# Altium footprint library EPC_Footprints1.PcbLib: 40 footprints (part 3 of 3)
Each footprint in its own frame and in the unit in brackets; x right, y up, seen from the top. Pads: shape width x height; smd on the part's side, far side on the other; paste and mask are expansions set on the pad; w line width, h text height; cw(c..) or ccw(c..) is an arc to the next point about the centre after c.
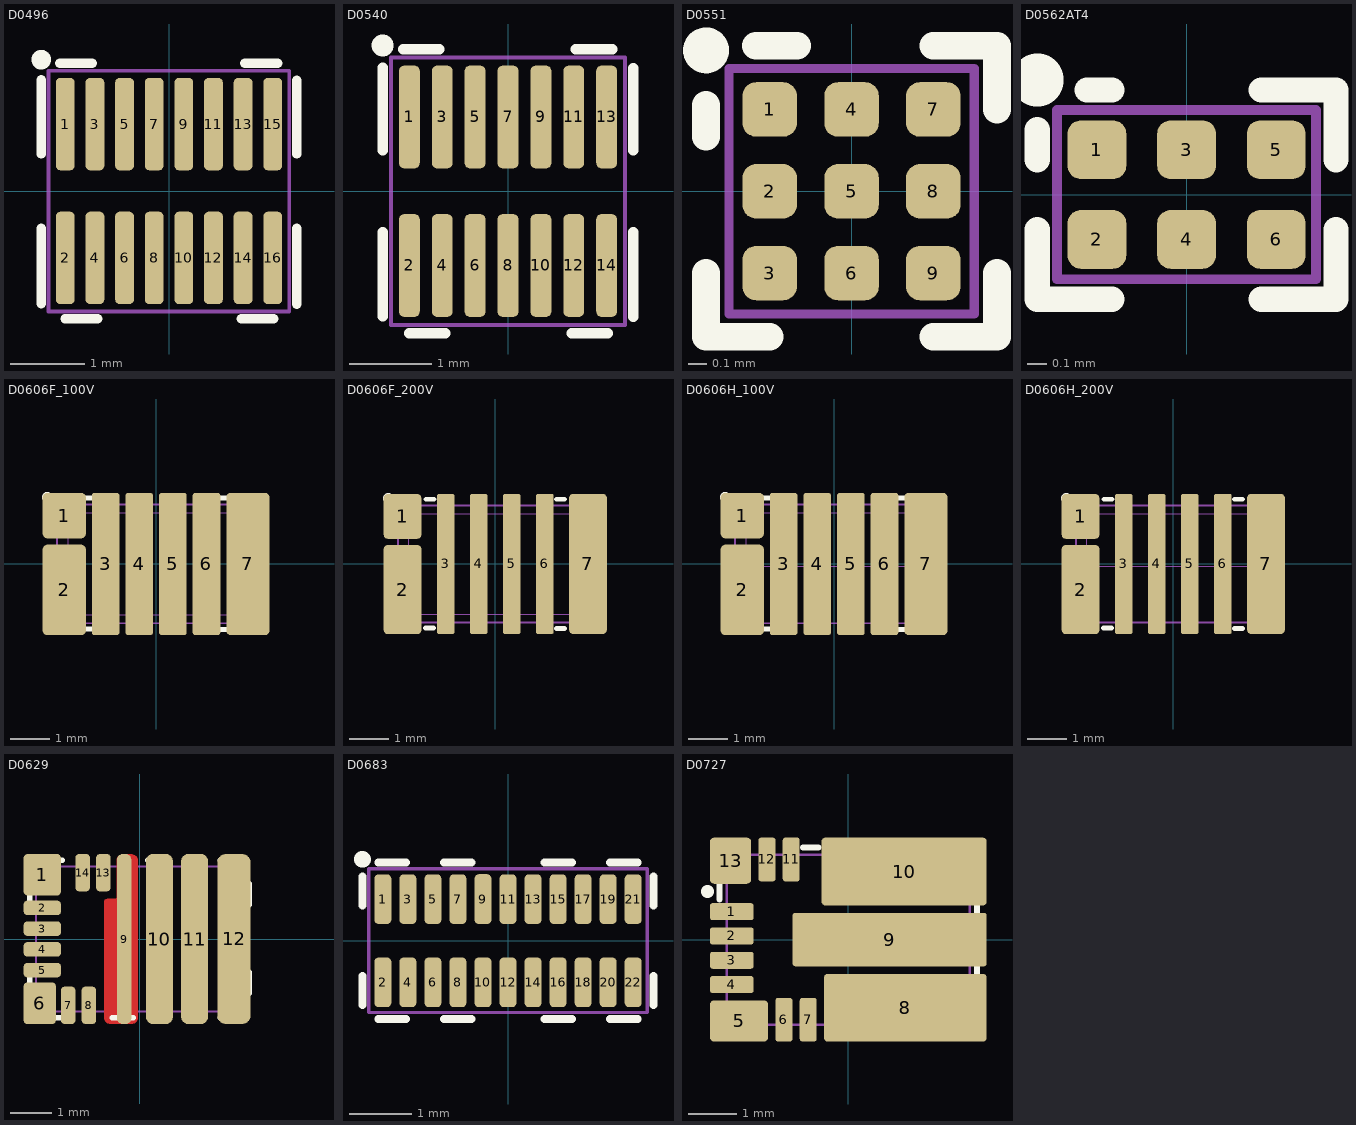
[diagram p2: the footprints below, top view; thin cyan lines are the x and y axes]

## D0496 [mm]
pads (32):
  rrect50% 0.254x1.249 smd paste-0.037 mask-0.274: 1(-1.4,0.903) 2(-1.4,-0.903) 3(-1,0.903) 4(-1,-0.903) 5(-0.6,0.903) 7(-0.2,0.903) 8(-0.2,-0.903) 9(0.2,0.903) 10(0.2,-0.903) 11(0.6,0.903) 12(0.6,-0.903) 13(1,0.903) 14(1,-0.903) 15(1.4,0.903) 16(1.4,-0.903)
  rrect50% 0.254x1.249 smd paste-0.037 mask-0.24: 6(-0.6,-0.903)
  oval 0.18x1.175 on Top Solder paste-0.18 mask+0: ""(-1.4,0.903) ""(-1.4,-0.903) ""(-1,0.903) ""(-1,-0.903) ""(-0.6,0.903) ""(-0.6,-0.903) ""(-0.2,0.903) ""(-0.2,-0.903) ""(0.2,0.903) ""(0.2,-0.903) ""(0.6,0.903) ""(0.6,-0.903) ""(1,0.903) ""(1,-0.903) ""(1.4,0.903) ""(1.4,-0.903)
Top Overlay:
  circle w0.254: c-1.725,1.773 r0.006
  lines w0.127: -1.725,-1.522 -1.725,-0.5 ; -1.725,0.5 -1.725,1.5 ; -1.474,1.725 -1.033,1.725 ; -1.403,-1.725 -0.963,-1.725 ; 0.975,-1.725 1.415,-1.725 ; 1.025,1.725 1.465,1.725 ; 1.725,-1.528 1.725,-0.5 ; 1.725,0.5 1.725,1.497
Mechanical 13:
  lines w0.05: -1.625,-1.625 -1.625,1.625 1.625,1.625 1.625,-1.625 -1.625,-1.625
3D body: height 0.2, standoff 0, extent -1.497,1.291 -1.303,1.488
3D body: height 0.2, standoff 0, extent -1.497,0.316 -1.303,0.513
3D body: height 0.2, standoff 0, extent -1.505,0.415 -1.296,1.39
3D body: height 0.2, standoff 0, extent -1.097,1.291 -0.903,1.488
3D body: height 0.2, standoff 0, extent -1.097,0.316 -0.903,0.513
3D body: height 0.2, standoff 0, extent -1.105,0.415 -0.896,1.39
3D body: height 0.2, standoff 0, extent -0.697,1.291 -0.503,1.488
3D body: height 0.2, standoff 0, extent -0.697,0.316 -0.503,0.513
3D body: height 0.2, standoff 0, extent -0.705,0.415 -0.496,1.39
3D body: height 0.2, standoff 0, extent -0.297,1.291 -0.103,1.488
3D body: height 0.2, standoff 0, extent -0.297,0.316 -0.103,0.513
3D body: height 0.2, standoff 0, extent -0.305,0.415 -0.096,1.39
3D body: height 0.2, standoff 0, extent 0.103,1.291 0.297,1.488
3D body: height 0.2, standoff 0, extent 0.103,0.316 0.297,0.513
3D body: height 0.2, standoff 0, extent 0.095,0.415 0.304,1.39
3D body: height 0.2, standoff 0, extent 0.503,1.291 0.697,1.488
3D body: height 0.2, standoff 0, extent 0.503,0.316 0.697,0.513
3D body: height 0.2, standoff 0, extent 0.495,0.415 0.704,1.39
3D body: height 0.2, standoff 0, extent 0.903,1.291 1.097,1.488
3D body: height 0.2, standoff 0, extent 0.903,0.316 1.097,0.513
3D body: height 0.2, standoff 0, extent 0.895,0.415 1.104,1.39
3D body: height 0.2, standoff 0, extent 1.303,1.291 1.497,1.488
3D body: height 0.2, standoff 0, extent 1.303,0.316 1.497,0.513
3D body: height 0.2, standoff 0, extent 1.295,0.415 1.504,1.39
3D body: height 0.2, standoff 0, extent 1.303,-0.515 1.497,-0.318
3D body: height 0.2, standoff 0, extent 1.303,-1.49 1.497,-1.293
3D body: height 0.2, standoff 0, extent 1.295,-1.391 1.504,-0.416
3D body: height 0.2, standoff 0, extent 0.903,-0.515 1.097,-0.318
3D body: height 0.2, standoff 0, extent 0.903,-1.49 1.097,-1.293
3D body: height 0.2, standoff 0, extent 0.895,-1.391 1.104,-0.416
3D body: height 0.2, standoff 0, extent 0.503,-0.515 0.697,-0.318
3D body: height 0.2, standoff 0, extent 0.503,-1.49 0.697,-1.293
3D body: height 0.2, standoff 0, extent 0.495,-1.391 0.704,-0.416
3D body: height 0.2, standoff 0, extent 0.103,-0.515 0.297,-0.318
3D body: height 0.2, standoff 0, extent 0.103,-1.49 0.297,-1.293
3D body: height 0.2, standoff 0, extent 0.095,-1.391 0.304,-0.416
3D body: height 0.2, standoff 0, extent -0.297,-0.515 -0.103,-0.318
3D body: height 0.2, standoff 0, extent -0.297,-1.49 -0.103,-1.293
3D body: height 0.2, standoff 0, extent -0.305,-1.391 -0.096,-0.416
3D body: height 0.2, standoff 0, extent -0.697,-0.515 -0.503,-0.318
3D body: height 0.2, standoff 0, extent -0.697,-1.49 -0.503,-1.293
3D body: height 0.2, standoff 0, extent -0.705,-1.391 -0.496,-0.416
3D body: height 0.2, standoff 0, extent -1.097,-0.515 -0.903,-0.318
3D body: height 0.2, standoff 0, extent -1.097,-1.49 -0.903,-1.293
3D body: height 0.2, standoff 0, extent -1.105,-1.391 -0.896,-0.416
3D body: height 0.78, standoff 0.1, extent -1.625,-1.628 1.625,1.628
3D body: height 0.79, standoff 0.78, extent -1.549,1.175 -1.25,1.475
3D body: height 0.2, standoff 0, extent -1.505,-1.391 -1.296,-0.416
3D body: height 0.2, standoff 0, extent -1.497,-1.49 -1.303,-1.293
3D body: height 0.2, standoff 0, extent -1.497,-0.515 -1.303,-0.318
3D body "3D_EPClogo3mm.step": height 0.79, standoff 0.78, extent -1.494,-0.674 1.494,0.675

## D0540 [mm]
pads (28):
  rrect50% 0.254x1.249 smd paste-0.037 mask-0.274: 1(-1.2,0.903) 2(-1.2,-0.903) 3(-0.8,0.903) 4(-0.8,-0.903) 5(-0.4,0.903) 7(0,0.903) 8(0,-0.903) 9(0.4,0.903) 10(0.4,-0.903) 11(0.8,0.903) 12(0.8,-0.903) 13(1.2,0.903) 14(1.2,-0.903)
  rrect50% 0.254x1.249 smd paste-0.037 mask-0.24: 6(-0.4,-0.903)
  oval 0.18x1.175 on Top Solder paste-0.18 mask+0: ""(-1.2,0.903) ""(-1.2,-0.903) ""(-0.8,0.903) ""(-0.8,-0.903) ""(-0.4,0.903) ""(-0.4,-0.903) ""(0,0.903) ""(0,-0.903) ""(0.4,0.903) ""(0.4,-0.903) ""(0.8,0.903) ""(0.8,-0.903) ""(1.2,0.903) ""(1.2,-0.903)
Top Overlay:
  circle w0.254: c-1.525,1.773 r0.006
  lines w0.127: -1.525,-1.522 -1.525,-0.5 ; -1.525,0.5 -1.525,1.5 ; -1.274,1.725 -0.833,1.725 ; -1.203,-1.725 -0.763,-1.725 ; 0.775,-1.725 1.215,-1.725 ; 0.825,1.725 1.265,1.725 ; 1.525,-1.528 1.525,-0.5 ; 1.525,0.5 1.525,1.497
Mechanical 13:
  lines w0.05: -1.425,-1.625 -1.425,1.625 1.425,1.625 1.425,-1.625 -1.425,-1.625
3D body: height 0.2, standoff 0, extent -1.297,-1.49 -1.103,-1.293
3D body: height 0.2, standoff 0, extent -1.305,-1.391 -1.096,-0.416
3D body: height 0.2, standoff 0, extent -1.297,-0.515 -1.103,-0.318
3D body: height 0.2, standoff 0, extent -0.905,-1.391 -0.696,-0.416
3D body: height 0.2, standoff 0, extent -0.097,-0.515 0.097,-0.318
3D body: height 0.2, standoff 0, extent -0.897,-1.49 -0.703,-1.293
3D body: height 0.2, standoff 0, extent -0.505,-1.391 -0.296,-0.416
3D body: height 0.2, standoff 0, extent -0.497,-0.515 -0.303,-0.318
3D body: height 0.2, standoff 0, extent -0.497,-1.49 -0.303,-1.293
3D body: height 0.2, standoff 0, extent -0.105,-1.391 0.104,-0.416
3D body: height 0.2, standoff 0, extent -0.497,0.316 -0.303,0.513
3D body: height 0.2, standoff 0, extent -1.297,0.316 -1.103,0.513
3D body: height 0.2, standoff 0, extent -0.897,-0.515 -0.703,-0.318
3D body: height 0.2, standoff 0, extent -0.897,0.316 -0.703,0.513
3D body: height 0.2, standoff 0, extent -0.097,0.316 0.097,0.513
3D body: height 0.2, standoff 0, extent 0.295,-1.391 0.504,-0.416
3D body: height 0.2, standoff 0, extent 1.103,-1.49 1.297,-1.293
3D body: height 0.2, standoff 0, extent 0.303,-1.49 0.497,-1.293
3D body: height 0.2, standoff 0, extent 0.695,-1.391 0.904,-0.416
3D body: height 0.2, standoff 0, extent 0.703,-1.49 0.897,-1.293
3D body: height 0.2, standoff 0, extent 1.095,-1.391 1.304,-0.416
3D body: height 0.2, standoff 0, extent -1.305,0.415 -1.096,1.39
3D body: height 0.2, standoff 0, extent -1.297,1.291 -1.103,1.488
3D body: height 0.2, standoff 0, extent 0.295,0.415 0.504,1.39
3D body: height 0.79, standoff 0.78, extent -1.349,1.175 -1.05,1.475
3D body: height 0.2, standoff 0, extent -0.905,0.415 -0.696,1.39
3D body: height 0.2, standoff 0, extent -0.897,1.291 -0.703,1.488
3D body: height 0.2, standoff 0, extent 0.303,1.291 0.497,1.488
3D body: height 0.2, standoff 0, extent -0.505,0.415 -0.296,1.39
3D body: height 0.2, standoff 0, extent -0.497,1.291 -0.303,1.488
3D body: height 0.2, standoff 0, extent -0.097,1.291 0.097,1.488
3D body: height 0.2, standoff 0, extent -0.105,0.415 0.104,1.39
3D body: height 0.2, standoff 0, extent 1.103,1.291 1.297,1.488
3D body: height 0.2, standoff 0, extent 0.695,0.415 0.904,1.39
3D body: height 0.2, standoff 0, extent 0.703,1.291 0.897,1.488
3D body: height 0.2, standoff 0, extent 1.095,0.415 1.304,1.39
3D body: height 0.78, standoff 0.1, extent -1.425,-1.627 1.425,1.628
3D body: height 0.2, standoff 0, extent -0.097,-1.49 0.097,-1.293
3D body: height 0.2, standoff 0, extent 0.303,-0.515 0.497,-0.318
3D body: height 0.2, standoff 0, extent 0.303,0.316 0.497,0.513
3D body: height 0.2, standoff 0, extent 1.103,-0.515 1.297,-0.318
3D body: height 0.2, standoff 0, extent 0.703,-0.515 0.897,-0.318
3D body: height 0.2, standoff 0, extent 0.703,0.316 0.897,0.513
3D body: height 0.2, standoff 0, extent 1.103,0.316 1.297,0.513
3D body "3D_EPClogo2_5mm.step": height 0.79, standoff 0.78, extent -1.209,-0.578 1.21,0.513

## D0551 [mm]
pads (18):
  rrect50% 0.3x0.3 smd paste-0.038 mask-0.148: 1(-0.45,0.45) 2(-0.45,0) 3(-0.45,-0.45) 4(0,0.45) 5(0,0) 6(0,-0.45) 7(0.45,0.45) 8(0.45,0) 9(0.45,-0.45)
  rrect50% 0.205x0.205 on Top Solder paste+0 mask+0: ""(-0.45,-0.45) ""(-0.45,0) ""(-0.45,0.45) ""(0,-0.45) ""(0,0) ""(0,0.45) ""(0.45,-0.45) ""(0.45,0) ""(0.45,0.45)
Top Overlay:
  circle w0.152: c-0.8,0.775 r0.05
  lines w0.152: -0.8,-0.45 -0.8,-0.8 -0.45,-0.8 ; -0.8,0.3 -0.8,0.475 ; -0.525,0.8 -0.3,0.8 ; 0.45,-0.8 0.8,-0.8 0.8,-0.45 ; 0.45,0.8 0.8,0.8 0.8,0.45
Mechanical 13:
  lines w0.05: -0.675,-0.675 -0.675,0.675 0.675,0.675 0.675,-0.675 -0.675,-0.675
3D body: height 0.23, standoff -0.05, extent -0.579,0.315 -0.312,0.586
3D body: height 0.16, standoff 0.09, extent -0.587,0.313 -0.312,0.588
3D body: height 0.23, standoff -0.05, extent -0.129,0.315 0.138,0.586
3D body: height 0.16, standoff 0.09, extent -0.137,0.313 0.138,0.588
3D body: height 0.23, standoff -0.05, extent 0.321,0.315 0.588,0.586
3D body: height 0.16, standoff 0.09, extent 0.313,0.313 0.588,0.588
3D body: height 0.23, standoff -0.05, extent 0.321,-0.585 0.588,-0.314
3D body: height 0.16, standoff 0.09, extent 0.313,-0.587 0.588,-0.312
3D body: height 0.23, standoff -0.05, extent -0.129,-0.585 0.138,-0.314
3D body: height 0.16, standoff 0.09, extent -0.137,-0.587 0.138,-0.312
3D body: height 0.23, standoff -0.05, extent -0.579,-0.585 -0.312,-0.314
3D body: height 0.16, standoff 0.09, extent -0.587,-0.587 -0.312,-0.312
3D body: height 0.23, standoff -0.05, extent 0.321,-0.135 0.588,0.136
3D body: height 0.16, standoff 0.09, extent 0.313,-0.137 0.588,0.138
3D body: height 0.23, standoff -0.05, extent -0.579,-0.135 -0.312,0.136
3D body: height 0.16, standoff 0.09, extent -0.587,-0.137 -0.312,0.138
3D body: height 0.16, standoff 0.09, extent -0.137,-0.137 0.138,0.138
3D body: height 0.23, standoff -0.05, extent -0.129,-0.135 0.138,0.136
3D body: height 0.8, standoff 0.12, extent -0.675,-0.675 0.675,0.675
3D body: height 0.81, standoff 0.8, extent -0.599,0.3 -0.3,0.6
3D body "3D_EPClogo1_25mm.step": height 0.81, standoff 0.8, extent -0.631,-0.314 0.65,0.264

## D0562AT4 [mm]
pads (12):
  rrect45% 0.295x0.295 smd paste-0.025 mask-0.135: 1(-0.45,0.225) 2(-0.45,-0.225) 3(0,0.225) 4(0,-0.225) 5(0.45,0.225) 6(0.45,-0.225)
  round 0.225 on Top Solder paste+0 mask+0: ""(-0.45,-0.225) ""(-0.45,0.225) ""(0,-0.225) ""(0,0.225) ""(0.45,-0.225) ""(0.45,0.225)
Top Overlay:
  circle w0.254: c-0.75,0.575 r0.006
  lines w0.127: -0.75,-0.175 -0.75,-0.525 -0.375,-0.525 ; -0.75,0.175 -0.75,0.325 ; -0.5,0.525 -0.375,0.525 ; 0.375,-0.525 0.75,-0.525 0.75,-0.175 ; 0.375,0.525 0.75,0.525 0.75,0.175
Mechanical 13:
  lines w0.05: -0.65,-0.425 0.65,-0.425 0.65,0.425 -0.65,0.425 -0.65,-0.425
3D body: height 0.1, standoff 0.04, extent -0.55,0.125 -0.351,0.325
3D body: height 0.15, standoff -0.05, extent -0.092,0.129 0.098,0.321
3D body: height 0.15, standoff -0.05, extent 0.357,0.129 0.548,0.321
3D body: height 0.15, standoff -0.05, extent 0.357,-0.321 0.548,-0.129
3D body: height 0.15, standoff -0.05, extent -0.092,-0.321 0.098,-0.129
3D body: height 0.1, standoff 0.04, extent 0.35,-0.325 0.549,-0.125
3D body: height 0.1, standoff 0.04, extent 0.35,0.125 0.549,0.325
3D body: height 0.1, standoff 0.04, extent -0.1,-0.325 0.099,-0.125
3D body: height 0.1, standoff 0.04, extent -0.1,0.125 0.099,0.325
3D body: height 0.15, standoff -0.05, extent -0.543,0.129 -0.352,0.321
3D body: height 0.15, standoff -0.05, extent -0.543,-0.321 -0.352,-0.129
3D body: height 0.1, standoff 0.04, extent -0.55,-0.325 -0.351,-0.125
3D body "3D_EPClogo1mm.step": height 0.79, standoff 0.78, extent -0.397,-0.325 0.6,0.125
3D body: height 0.78, standoff 0.1, extent -0.65,-0.425 0.65,0.425
3D body: height 0.8, standoff 0.15, extent -0.599,0.075 -0.3,0.375

## D0606F_100V [mm]
pads (34):
  rrect20% 1.091x1.15 smd paste-1 mask-1: 1(-2.321,1.222)
  rrect20% 1.091x2.29 smd paste-1 mask-1: 2(-2.321,-0.658)
  rrect20% 0.7x3.6 smd paste-1 mask-1: 3(-1.275,0) 4(-0.425,0) 5(0.425,0) 6(1.275,0)
  rrect20% 1.091x3.6 smd paste-1 mask-1: 7(2.321,0)
  rrect50% 0.7x0.37 on Top Solder paste-1 mask-1: ""(-2.351,-0.975) ""(-2.351,-0.325) ""(-2.351,0.975) ""(2.351,-0.975) ""(2.351,-0.325) ""(2.351,0.325) ""(2.351,0.975)
  rrect50% 0.76x0.37 on Top Solder paste-1 mask-1: ""(-2.321,0.225)
  rrect50% 0.54x1.78 on Top Paste paste-1 mask-1: ""(-2.275,-0.6)
  rrect50% 0.6x0.72 on Top Paste paste-1 mask-1: ""(-2.275,1.2)
  rrect50% 0.47x2.075 on Top Solder paste-1 mask-1: ""(-2.175,-0.663)
  rrect50% 0.47x0.985 on Top Solder paste-1 mask-1: ""(-2.175,1.207)
  rrect50% 0.26x1.4 on Top Paste paste-1 mask-1: ""(-1.275,-0.85) ""(-1.275,0.85) ""(-0.425,-0.85) ""(-0.425,0.85) ""(0.425,-0.85) ""(0.425,0.85) ""(1.275,-0.85) ""(1.275,0.85)
  rrect50% 0.37x3.4 on Top Solder paste-1 mask-1: ""(-1.275,0) ""(-0.425,0) ""(0.425,0) ""(1.275,0)
  rrect50% 0.47x3.4 on Top Solder paste-1 mask-1: ""(2.175,0)
  rrect50% 0.54x1.4 on Top Paste paste-1 mask-1: ""(2.29,-0.85) ""(2.29,0.85)
Top Overlay:
  circle w0.254: c-2.749,1.69 r0.006
  lines w0.127: -2.722,-1.558 -2.722,-1.273 ; -2.722,1.277 -2.722,1.399 ; -1.794,-1.65 -1.593,-1.65 ; -1.779,1.663 -1.577,1.663 ; 1.577,-1.663 1.778,-1.663 ; 1.577,1.663 1.778,1.663 ; 2.746,-1.646 2.745,-1.302 ; 2.746,1.307 2.746,1.667
Mechanical 13:
  lines w0.01: -2.225,-1.29 -2.225,1.29 2.225,1.29 2.225,-1.29 -2.225,-1.29
  lines w0.013: -2.325,1.5 -2.025,1.5 ; -2.235,0.375 -2.115,0.375 ; -2.5,-1.1 -2.5,-0.85 -2.4,-0.85 ccw(c-2.4,-0.8) -2.35,-0.8 -2.35,-0.5 ccw(c-2.4,-0.5) -2.4,-0.45 -2.5,-0.45 -2.5,-0.2 -2.4,-0.2 ccw(c-2.4,-0.15) -2.35,-0.15 -2.35,0.05 ccw(c-2.4,0.05) -2.4,0.1 -2.5,0.1 -2.5,0.35 -2.316,0.35 cw(c-2.25,0.275) -2.25,0.375 -2.1,0.375 cw(c-2.1,0.275) -2,0.275 -2,-1.5 -2.35,-1.5 -2.35,-1.15 ccw(c-2.4,-1.15) -2.4,-1.1 -2.5,-1.1 ; -2.5,0.865 -2.5,1.085 -2.4,1.085 ccw(c-2.4,1.135) -2.35,1.135 -2.35,1.5 -2,1.5 -2,0.94 -2.165,0.775 -2.25,0.775 cw(c-2.25,0.875) -2.349,0.865 -2.5,0.865 ; -2.325,-1.5 -2.025,-1.5 -2.325,-1.5 ; -1.4,-1.5 -1.4,1.5 -1.15,1.5 -1.15,-1.5 -1.4,-1.5 ; -0.55,-1.5 -0.55,1.5 -0.3,1.5 -0.3,-1.5 -0.55,-1.5 ; 0.3,-1.5 0.3,1.5 0.55,1.5 0.55,-1.5 0.3,-1.5 ; 1.15,-1.5 1.15,1.5 1.4,1.5 1.4,-1.5 1.15,-1.5 ; 2,-1.5 2.35,-1.5 2.35,-1.135 cw(c2.385,-1.135) 2.385,-1.1 2.5,-1.1 2.5,-0.85 2.385,-0.85 cw(c2.385,-0.815) 2.35,-0.815 2.35,-0.485 cw(c2.385,-0.485) 2.385,-0.45 2.5,-0.45 2.5,-0.2 2.385,-0.2 cw(c2.385,-0.165) 2.35,-0.165 2.35,0.165 cw(c2.385,0.165) 2.385,0.2 2.5,0.2 2.5,0.45 2.385,0.45 cw(c2.385,0.485) 2.35,0.485 2.35,0.815 cw(c2.385,0.815) 2.385,0.85 2.5,0.85 2.5,1.1 2.385,1.1 cw(c2.385,1.135) 2.35,1.135 2.35,1.5 2,1.5 2,-1.5
  lines w0.05: -2.5,-1.5 2.5,-1.5 2.5,1.5 -2.5,1.5 -2.5,-1.5
3D body "3D_EPClogo4mm.step": height 0.76, standoff 0.75, extent -1.892,-0.875 2.092,0.923
3D body: height 0.75, standoff 0.75, extent -1.954,0.77 -1.655,1.07
3D body: height 0.75, standoff 0.2, extent -2.225,-1.29 2.225,1.29
3D body: height 0.25, standoff 0, extent -2,-1.5 -2,-1.5
3D body: height 0.25, standoff 0.05, extent -1.4,-1.5 -1.15,1.5
3D body: height 0.25, standoff 0.05, extent -0.55,-1.5 -0.3,1.5
3D body: height 0.25, standoff 0.05, extent 0.3,-1.5 0.55,1.5
3D body: height 0.25, standoff 0.05, extent 1.15,-1.5 1.4,1.5
3D body: height 0.65, standoff 0.15, extent -2.475,-1.475 2.472,1.476
3D body: height 0.25, standoff 0.05, extent -2.5,0.775 -2,1.5
3D body: height 0.25, standoff 0.05, extent 2,-1.5 2.5,1.5
3D body: height 0.25, standoff 0.05, extent -2.5,-1.5 -2,0.375

## D0606F_200V [mm]
pads (34):
  rrect20% 0.967x1.15 smd paste-1 mask-1: 1(-2.383,1.222)
  rrect20% 0.967x2.29 smd paste-1 mask-1: 2(-2.383,-0.658)
  rrect20% 0.45x3.6 smd paste-1 mask-1: 3(-1.275,0) 4(-0.425,0) 5(0.425,0) 6(1.275,0)
  rrect20% 0.967x3.6 smd paste-1 mask-1: 7(2.383,0)
  rrect50% 0.685x0.37 on Top Solder paste-1 mask-1: ""(-2.358,0.225) ""(-2.358,-0.975) ""(-2.358,-0.325) ""(-2.358,0.975) ""(2.358,-0.975) ""(2.358,-0.325) ""(2.358,0.325) ""(2.358,0.975)
  rrect50% 0.54x1.78 on Top Paste paste-1 mask-1: ""(-2.275,-0.6)
  rrect50% 0.6x0.72 on Top Paste paste-1 mask-1: ""(-2.275,1.2)
  rrect50% 0.394x2.075 on Top Solder paste-1 mask-1: ""(-2.213,-0.663)
  rrect50% 0.394x0.985 on Top Solder paste-1 mask-1: ""(-2.213,1.207)
  rrect50% 0.26x1.4 on Top Paste paste-1 mask-1: ""(-1.275,-0.85) ""(-1.275,0.85) ""(-0.425,-0.85) ""(-0.425,0.85) ""(0.425,-0.85) ""(0.425,0.85) ""(1.275,-0.85) ""(1.275,0.85)
  rrect50% 0.298x3.4 on Top Solder paste-1 mask-1: ""(-1.275,0) ""(-0.425,0) ""(0.425,0) ""(1.275,0)
  rrect50% 0.394x3.4 on Top Solder paste-1 mask-1: ""(2.213,0)
  rrect50% 0.54x1.4 on Top Paste paste-1 mask-1: ""(2.29,-0.85) ""(2.29,0.85)
Top Overlay:
  circle w0.254: c-2.749,1.69 r0.006
  lines w0.127: -2.722,-1.558 -2.722,-1.273 ; -2.722,1.277 -2.722,1.399 ; -1.794,-1.65 -1.593,-1.65 ; -1.779,1.663 -1.577,1.663 ; 1.577,-1.663 1.778,-1.663 ; 1.577,1.663 1.778,1.663 ; 2.746,-1.646 2.745,-1.302 ; 2.746,1.307 2.746,1.667
Mechanical 13:
  lines w0.01: -2.225,-1.29 2.225,-1.29 2.225,1.29 -2.225,1.29 -2.225,-1.29
  lines w0.013: -2.325,1.5 -2.025,1.5 ; -2.235,0.375 -2.115,0.375 ; -2.5,-1.1 -2.4,-1.1 cw(c-2.4,-1.15) -2.35,-1.15 -2.35,-1.5 -2,-1.5 -2,0.275 ccw(c-2.1,0.275) -2.1,0.375 -2.25,0.375 ccw(c-2.25,0.275) -2.316,0.35 -2.5,0.35 -2.5,0.1 -2.4,0.1 cw(c-2.4,0.05) -2.35,0.05 -2.35,-0.15 cw(c-2.4,-0.15) -2.4,-0.2 -2.5,-0.2 -2.5,-0.45 -2.4,-0.45 cw(c-2.4,-0.5) -2.35,-0.5 -2.35,-0.8 cw(c-2.4,-0.8) -2.4,-0.85 -2.5,-0.85 -2.5,-1.1 ; -2.5,0.865 -2.349,0.865 ccw(c-2.25,0.875) -2.25,0.775 -2.165,0.775 -2,0.94 -2,1.5 -2.35,1.5 -2.35,1.135 cw(c-2.4,1.135) -2.4,1.085 -2.5,1.085 -2.5,0.865 ; -2.325,-1.5 -2.025,-1.5 -2.325,-1.5 ; -1.4,-1.5 -1.15,-1.5 -1.15,1.5 -1.4,1.5 -1.4,-1.5 ; -0.55,-1.5 -0.3,-1.5 -0.3,1.5 -0.55,1.5 -0.55,-1.5 ; 0.3,-1.5 0.55,-1.5 0.55,1.5 0.3,1.5 0.3,-1.5 ; 1.15,-1.5 1.4,-1.5 1.4,1.5 1.15,1.5 1.15,-1.5 ; 2,-1.5 2,1.5 2.35,1.5 2.35,1.135 ccw(c2.385,1.135) 2.385,1.1 2.5,1.1 2.5,0.85 2.385,0.85 ccw(c2.385,0.815) 2.35,0.815 2.35,0.485 ccw(c2.385,0.485) 2.385,0.45 2.5,0.45 2.5,0.2 2.385,0.2 ccw(c2.385,0.165) 2.35,0.165 2.35,-0.165 ccw(c2.385,-0.165) 2.385,-0.2 2.5,-0.2 2.5,-0.45 2.385,-0.45 ccw(c2.385,-0.485) 2.35,-0.485 2.35,-0.815 ccw(c2.385,-0.815) 2.385,-0.85 2.5,-0.85 2.5,-1.1 2.385,-1.1 ccw(c2.385,-1.135) 2.35,-1.135 2.35,-1.5 2,-1.5
  lines w0.05: -2.5,-1.5 -2.5,1.5 2.5,1.5 2.5,-1.5 -2.5,-1.5
3D body: height 0.65, standoff 0.15, extent -2.475,-1.475 2.472,1.476
3D body: height 0.25, standoff 0.05, extent 1.15,-1.5 1.4,1.5
3D body: height 0.25, standoff 0.05, extent 0.3,-1.5 0.55,1.5
3D body: height 0.25, standoff 0.05, extent -0.55,-1.5 -0.3,1.5
3D body: height 0.25, standoff 0.05, extent -1.4,-1.5 -1.15,1.5
3D body: height 0.25, standoff 0, extent -2,-1.5 -2,-1.5
3D body: height 0.75, standoff 0.2, extent -2.225,-1.29 2.225,1.29
3D body: height 0.75, standoff 0.75, extent -1.954,0.77 -1.655,1.07
3D body "3D_EPClogo4mm.step": height 0.76, standoff 0.75, extent -1.892,-0.875 2.092,0.923
3D body: height 0.25, standoff 0.05, extent -2.5,-1.5 -2,0.375
3D body: height 0.25, standoff 0.05, extent 2,-1.5 2.5,1.5
3D body: height 0.25, standoff 0.05, extent -2.5,0.775 -2,1.5

## D0606H_100V [mm]
pads (34):
  rrect20% 1.091x1.15 smd paste-1 mask-1: 1(-2.321,1.222)
  rrect20% 1.091x2.29 smd paste-1 mask-1: 2(-2.321,-0.658)
  rrect20% 0.7x3.6 smd paste-1 mask-1: 3(-1.275,0) 4(-0.425,0) 5(0.425,0) 6(1.275,0)
  rrect20% 1.091x3.6 smd paste-1 mask-1: 7(2.321,0)
  rrect50% 0.7x0.37 on Top Solder paste-1 mask-1: ""(-2.351,-0.975) ""(-2.351,-0.325) ""(-2.351,0.975) ""(2.351,-0.975) ""(2.351,-0.325) ""(2.351,0.325) ""(2.351,0.975)
  rrect50% 0.76x0.37 on Top Solder paste-1 mask-1: ""(-2.321,0.225)
  rrect50% 0.54x1.78 on Top Paste paste-1 mask-1: ""(-2.275,-0.6)
  rrect50% 0.6x0.72 on Top Paste paste-1 mask-1: ""(-2.275,1.2)
  rrect50% 0.47x2.075 on Top Solder paste-1 mask-1: ""(-2.175,-0.663)
  rrect50% 0.47x0.985 on Top Solder paste-1 mask-1: ""(-2.175,1.207)
  rrect50% 0.26x1.4 on Top Paste paste-1 mask-1: ""(-1.275,-0.85) ""(-1.275,0.85) ""(-0.425,-0.85) ""(-0.425,0.85) ""(0.425,-0.85) ""(0.425,0.85) ""(1.275,-0.85) ""(1.275,0.85)
  rrect50% 0.37x3.4 on Top Solder paste-1 mask-1: ""(-1.275,0) ""(-0.425,0) ""(0.425,0) ""(1.275,0)
  rrect50% 0.47x3.4 on Top Solder paste-1 mask-1: ""(2.175,0)
  rrect50% 0.54x1.4 on Top Paste paste-1 mask-1: ""(2.29,-0.85) ""(2.29,0.85)
Top Overlay:
  circle w0.254: c-2.749,1.69 r0.006
  lines w0.127: -2.722,-1.558 -2.722,-1.273 ; -2.722,1.277 -2.722,1.399 ; -1.794,-1.65 -1.593,-1.65 ; -1.779,1.663 -1.577,1.663 ; 1.577,-1.663 1.778,-1.663 ; 1.577,1.663 1.778,1.663 ; 2.746,-1.646 2.745,-1.302 ; 2.746,1.307 2.746,1.667
Mechanical 13:
  lines w0.01: -2.225,-0.06 2.225,-0.06 2.225,1.29 -2.225,1.29 -2.225,-0.06
  lines w0.013: -2.325,1.5 -2.025,1.5 ; -2.235,0.375 -2.115,0.375 ; -2.5,-1.1 -2.4,-1.1 cw(c-2.4,-1.15) -2.35,-1.15 -2.35,-1.5 -2,-1.5 -2,0.275 ccw(c-2.1,0.275) -2.1,0.375 -2.25,0.375 ccw(c-2.25,0.275) -2.316,0.35 -2.5,0.35 -2.5,0.1 -2.4,0.1 cw(c-2.4,0.05) -2.35,0.05 -2.35,-0.15 cw(c-2.4,-0.15) -2.4,-0.2 -2.5,-0.2 -2.5,-0.45 -2.4,-0.45 cw(c-2.4,-0.5) -2.35,-0.5 -2.35,-0.8 cw(c-2.4,-0.8) -2.4,-0.85 -2.5,-0.85 -2.5,-1.1 ; -2.5,0.865 -2.349,0.865 ccw(c-2.25,0.875) -2.25,0.775 -2.165,0.775 -2,0.94 -2,1.5 -2.35,1.5 -2.35,1.135 cw(c-2.4,1.135) -2.4,1.085 -2.5,1.085 -2.5,0.865 ; -2.325,-1.5 -2.025,-1.5 -2.325,-1.5 ; -1.4,-1.5 -1.15,-1.5 -1.15,1.5 -1.4,1.5 -1.4,-1.5 ; -0.55,-1.5 -0.3,-1.5 -0.3,1.5 -0.55,1.5 -0.55,-1.5 ; 0.3,-1.5 0.55,-1.5 0.55,1.5 0.3,1.5 0.3,-1.5 ; 1.15,-1.5 1.4,-1.5 1.4,1.5 1.15,1.5 1.15,-1.5 ; 2,-1.5 2,1.5 2.35,1.5 2.35,1.135 ccw(c2.385,1.135) 2.385,1.1 2.5,1.1 2.5,0.85 2.385,0.85 ccw(c2.385,0.815) 2.35,0.815 2.35,0.485 ccw(c2.385,0.485) 2.385,0.45 2.5,0.45 2.5,0.2 2.385,0.2 ccw(c2.385,0.165) 2.35,0.165 2.35,-0.165 ccw(c2.385,-0.165) 2.385,-0.2 2.5,-0.2 2.5,-0.45 2.385,-0.45 ccw(c2.385,-0.485) 2.35,-0.485 2.35,-0.815 ccw(c2.385,-0.815) 2.385,-0.85 2.5,-0.85 2.5,-1.1 2.385,-1.1 ccw(c2.385,-1.135) 2.35,-1.135 2.35,-1.5 2,-1.5
  lines w0.05: -2.5,-1.5 -2.5,1.5 2.5,1.5 2.5,-1.5 -2.5,-1.5
3D body: height 0.65, standoff 0.15, extent -2.475,-1.475 2.472,1.476
3D body: height 0.25, standoff 0.05, extent 1.15,-1.5 1.4,1.5
3D body: height 0.25, standoff 0.05, extent 0.3,-1.5 0.55,1.5
3D body: height 0.25, standoff 0.05, extent -0.55,-1.5 -0.3,1.5
3D body: height 0.25, standoff 0.05, extent -1.4,-1.5 -1.15,1.5
3D body: height 0.25, standoff 0, extent -2,-1.5 -2,-1.5
3D body: height 0.75, standoff 0.2, extent -2.225,-0.06 2.225,1.29
3D body: height 0.75, standoff 0.75, extent -1.954,0.77 -1.655,1.07
3D body "3D_EPClogo2_5mm.step": height 0.75, standoff 0.75, extent -1.143,0.096 1.276,1.188
3D body: height 0.25, standoff 0.05, extent -2.5,-1.5 -2,0.375
3D body: height 0.25, standoff 0.05, extent 2,-1.5 2.5,1.5
3D body: height 0.25, standoff 0.05, extent -2.5,0.775 -2,1.5

## D0606H_200V [mm]
pads (34):
  rrect20% 0.967x1.15 smd paste-1 mask-1: 1(-2.383,1.222)
  rrect20% 0.967x2.29 smd paste-1 mask-1: 2(-2.383,-0.658)
  rrect20% 0.45x3.6 smd paste-1 mask-1: 3(-1.275,0) 4(-0.425,0) 5(0.425,0) 6(1.275,0)
  rrect20% 0.967x3.6 smd paste-1 mask-1: 7(2.383,0)
  rrect50% 0.685x0.37 on Top Solder paste-1 mask-1: ""(-2.358,0.225) ""(-2.358,-0.975) ""(-2.358,-0.325) ""(-2.358,0.975) ""(2.358,-0.975) ""(2.358,-0.325) ""(2.358,0.325) ""(2.358,0.975)
  rrect50% 0.54x1.78 on Top Paste paste-1 mask-1: ""(-2.275,-0.6)
  rrect50% 0.6x0.72 on Top Paste paste-1 mask-1: ""(-2.275,1.2)
  rrect50% 0.394x2.075 on Top Solder paste-1 mask-1: ""(-2.213,-0.663)
  rrect50% 0.394x0.985 on Top Solder paste-1 mask-1: ""(-2.213,1.207)
  rrect50% 0.26x1.4 on Top Paste paste-1 mask-1: ""(-1.275,-0.85) ""(-1.275,0.85) ""(-0.425,-0.85) ""(-0.425,0.85) ""(0.425,-0.85) ""(0.425,0.85) ""(1.275,-0.85) ""(1.275,0.85)
  rrect50% 0.298x3.4 on Top Solder paste-1 mask-1: ""(-1.275,0) ""(-0.425,0) ""(0.425,0) ""(1.275,0)
  rrect50% 0.394x3.4 on Top Solder paste-1 mask-1: ""(2.213,0)
  rrect50% 0.54x1.4 on Top Paste paste-1 mask-1: ""(2.29,-0.85) ""(2.29,0.85)
Top Overlay:
  circle w0.254: c-2.749,1.69 r0.006
  lines w0.127: -2.722,-1.558 -2.722,-1.273 ; -2.722,1.277 -2.722,1.399 ; -1.794,-1.65 -1.593,-1.65 ; -1.779,1.663 -1.577,1.663 ; 1.577,-1.663 1.778,-1.663 ; 1.577,1.663 1.778,1.663 ; 2.746,-1.646 2.745,-1.302 ; 2.746,1.307 2.746,1.667
Mechanical 13:
  lines w0.01: -2.225,-0.06 -2.225,1.29 2.225,1.29 2.225,-0.06 -2.225,-0.06
  lines w0.013: -2.325,1.5 -2.025,1.5 ; -2.235,0.375 -2.115,0.375 ; -2.5,-1.1 -2.4,-1.1 cw(c-2.4,-1.15) -2.35,-1.15 -2.35,-1.5 -2,-1.5 -2,0.275 ccw(c-2.1,0.275) -2.1,0.375 -2.25,0.375 ccw(c-2.25,0.275) -2.316,0.35 -2.5,0.35 -2.5,0.1 -2.4,0.1 cw(c-2.4,0.05) -2.35,0.05 -2.35,-0.15 cw(c-2.4,-0.15) -2.4,-0.2 -2.5,-0.2 -2.5,-0.45 -2.4,-0.45 cw(c-2.4,-0.5) -2.35,-0.5 -2.35,-0.8 cw(c-2.4,-0.8) -2.4,-0.85 -2.5,-0.85 -2.5,-1.1 ; -2.5,0.865 -2.349,0.865 ccw(c-2.25,0.875) -2.25,0.775 -2.165,0.775 -2,0.94 -2,1.5 -2.35,1.5 -2.35,1.135 cw(c-2.4,1.135) -2.4,1.085 -2.5,1.085 -2.5,0.865 ; -2.325,-1.5 -2.025,-1.5 -2.325,-1.5 ; -1.4,-1.5 -1.15,-1.5 -1.15,1.5 -1.4,1.5 -1.4,-1.5 ; -0.55,-1.5 -0.3,-1.5 -0.3,1.5 -0.55,1.5 -0.55,-1.5 ; 0.3,-1.5 0.55,-1.5 0.55,1.5 0.3,1.5 0.3,-1.5 ; 1.15,-1.5 1.4,-1.5 1.4,1.5 1.15,1.5 1.15,-1.5 ; 2,-1.5 2,1.5 2.35,1.5 2.35,1.135 ccw(c2.385,1.135) 2.385,1.1 2.5,1.1 2.5,0.85 2.385,0.85 ccw(c2.385,0.815) 2.35,0.815 2.35,0.485 ccw(c2.385,0.485) 2.385,0.45 2.5,0.45 2.5,0.2 2.385,0.2 ccw(c2.385,0.165) 2.35,0.165 2.35,-0.165 ccw(c2.385,-0.165) 2.385,-0.2 2.5,-0.2 2.5,-0.45 2.385,-0.45 ccw(c2.385,-0.485) 2.35,-0.485 2.35,-0.815 ccw(c2.385,-0.815) 2.385,-0.85 2.5,-0.85 2.5,-1.1 2.385,-1.1 ccw(c2.385,-1.135) 2.35,-1.135 2.35,-1.5 2,-1.5
  lines w0.05: -2.5,-1.5 -2.5,1.5 2.5,1.5 2.5,-1.5 -2.5,-1.5
3D body "3D_EPClogo2_5mm.step": height 0.75, standoff 0.75, extent -1.143,0.096 1.276,1.188
3D body: height 0.65, standoff 0.15, extent -2.475,-1.475 2.472,1.476
3D body: height 0.25, standoff 0.05, extent 1.15,-1.5 1.4,1.5
3D body: height 0.25, standoff 0.05, extent 0.3,-1.5 0.55,1.5
3D body: height 0.25, standoff 0.05, extent -0.55,-1.5 -0.3,1.5
3D body: height 0.25, standoff 0.05, extent -1.4,-1.5 -1.15,1.5
3D body: height 0.25, standoff 0, extent -2,-1.5 -2,-1.5
3D body: height 0.75, standoff 0.75, extent -1.954,0.77 -1.655,1.07
3D body: height 0.75, standoff 0.2, extent -2.225,-0.06 2.225,1.29
3D body: height 0.25, standoff 0.05, extent -2.5,-1.5 -2,0.375
3D body: height 0.25, standoff 0.05, extent 2,-1.5 2.5,1.5
3D body: height 0.25, standoff 0.05, extent -2.5,0.775 -2,1.5

## D0629 [mm]
pads (44):
  rrect20% 0.9x1 smd paste-1 mask-1: 1(-2.35,1.55)
  rrect50% 0.9x0.35 smd paste-1 mask-1: 2(-2.35,0.75) 3(-2.35,0.25) 4(-2.35,-0.25) 5(-2.35,-0.75)
  rrect20% 0.775x1 smd paste-1 mask-1: 6(-2.412,-1.55)
  rrect50% 0.35x0.9 smd paste-1 mask-1: 7(-1.725,-1.6) 8(-1.225,-1.6) 13(-0.875,1.6) 14(-1.375,1.6)
  rrect80% 0.35x4.1 smd paste-1 mask-1: 9(-0.375,0)
  rrect50% 0.65x4.1 smd paste-1 mask-1: 10(0.475,0) 11(1.325,0)
  rrect50% 0.8x4.1 smd paste-1 mask-1: 12(2.275,0)
  rrect50% 0.4x0.25 on Top Paste paste-1 mask-1: ""(-2.32,0.25) ""(-2.3,-0.75) ""(-2.3,-0.25) ""(-2.3,0.75)
  rrect50% 0.52x0.35 on Top Solder paste-1 mask-1: ""(-2.3,-1.25) ""(-2.3,1.25)
  rrect50% 0.52x0.3 on Top Solder paste-1 mask-1: ""(-2.3,-0.75) ""(-2.3,-0.25) ""(-2.3,0.75) ""(-2.3,0.25)
  rrect50% 0.336x0.5 on Top Paste paste-1 mask-1: ""(-2.275,1.375) ""(-2.213,-1.325)
  rrect50% 0.32x0.52 on Top Solder paste-1 mask-1: ""(-2.2,-1.53) ""(-2.2,1.53)
  rrect50% 0.3x0.52 on Top Solder paste-1 mask-1: ""(-1.725,-1.55) ""(-1.375,1.55) ""(-1.225,-1.55) ""(-0.875,1.55)
  rrect50% 0.25x0.4 on Top Paste paste-1 mask-1: ""(-1.725,-1.55) ""(-1.375,1.55) ""(-1.225,-1.55) ""(-0.875,1.55)
  rrect50% 0.3x3.62 on Top Solder paste-1 mask-1: ""(-0.375,0)
  rrect50% 0.25x3.5 on Top Paste paste-1 mask-1: ""(-0.375,0) ""(0.475,0) ""(1.325,0)
  rrect50% 0.37x3.62 on Top Solder paste-1 mask-1: ""(0.475,0) ""(1.325,0)
  rrect50% 0.336x3.5 on Top Paste paste-1 mask-1: ""(2.218,0)
  rrect50% 0.6x3.62 on Top Solder paste-1 mask-1: ""(2.275,0)
Top Layer:
  region: -0.05,1.894 -0.05,1.925 -0.074,1.982 -0.118,2.026 -0.175,2.05 -0.206,2.05 -0.394,2.05 -0.425,2.05 -0.482,2.026 -0.526,1.982 -0.55,1.925 -0.55,1.894 -0.55,1.025 -0.551,1.015 -0.558,0.997 -0.572,0.983 -0.59,0.976 -0.6,0.975 -0.772,0.975 -0.787,0.975 -0.816,0.963 -0.838,0.941 -0.85,0.912 -0.85,0.897 -0.85,-1.9 -0.85,-1.93 -0.827,-1.985 -0.785,-2.027 -0.73,-2.05 -0.7,-2.05 -0.2,-2.05 -0.17,-2.05 -0.115,-2.027 -0.073,-1.985 -0.05,-1.93 -0.05,-1.9
Top Overlay:
  circle w0.254: c-2.65,1.9 r0.006
  lines w0.127: -2.65,-1.363 -2.65,-0.848 ; -2.65,0.916 -2.65,1.381 ; -2.38,-1.9 -1.865,-1.9 ; -2.304,1.9 -1.864,1.9 ; -0.666,-1.9 -0.151,-1.9 ; 0.187,1.9 0.702,1.9 ; 1.945,-1.9 2.37,-1.9 ; 1.945,1.9 2.37,1.9 ; 2.65,-1.313 2.65,-0.798 ; 2.65,0.822 2.65,1.337
Mechanical 13:
  lines w0.013: -2.5,-1.375 -2.5,-1.125 -2.225,-1.125 cw(c-2.225,-1.25) -2.1,-1.25 -2.1,-1.75 -2.3,-1.75 -2.3,-1.375 -2.5,-1.375 ; -2.5,-0.875 -2.5,-0.625 -2.225,-0.625 cw(c-2.225,-0.75) -2.225,-0.875 -2.5,-0.875 ; -2.5,-0.375 -2.5,-0.125 -2.225,-0.125 cw(c-2.225,-0.25) -2.225,-0.375 -2.5,-0.375 ; -2.5,0.125 -2.5,0.375 -2.225,0.375 cw(c-2.225,0.25) -2.225,0.125 -2.5,0.125 ; -2.5,0.625 -2.5,0.875 -2.225,0.875 cw(c-2.225,0.75) -2.225,0.625 -2.5,0.625 ; -2.5,1.125 -2.5,1.375 -2.3,1.375 -2.3,1.75 -2.1,1.75 -2.1,1.25 cw(c-2.225,1.25) -2.225,1.125 -2.5,1.125 ; -1.85,-1.75 -1.6,-1.75 -1.6,-1.475 ccw(c-1.725,-1.475) -1.85,-1.475 -1.85,-1.75 ; -1.5,1.475 ccw(c-1.375,1.475) -1.25,1.475 -1.25,1.75 -1.5,1.75 -1.5,1.475 ; -1.35,-1.75 -1.1,-1.75 -1.1,-1.475 ccw(c-1.225,-1.475) -1.35,-1.475 -1.35,-1.75 ; -1,1.475 ccw(c-0.875,1.475) -0.75,1.475 -0.75,1.75 -1,1.75 -1,1.475 ; -0.5,-1.75 -0.25,-1.75 -0.25,1.75 -0.5,1.75 -0.5,-1.75 ; 0.35,-1.75 0.6,-1.75 0.6,1.75 0.35,1.75 0.35,-1.75 ; 1.2,-1.75 1.45,-1.75 1.45,1.75 1.2,1.75 1.2,-1.75 ; 2.05,-1.75 2.3,-1.75 2.3,-1.41 cw(c2.335,-1.41) 2.335,-1.375 2.5,-1.375 2.5,-1.125 2.335,-1.125 cw(c2.335,-1.09) 2.3,-1.09 2.3,-0.91 cw(c2.335,-0.91) 2.335,-0.875 2.5,-0.875 2.5,-0.625 2.335,-0.625 cw(c2.335,-0.59) 2.3,-0.59 2.3,-0.41 cw(c2.335,-0.41) 2.335,-0.375 2.5,-0.375 2.5,-0.125 2.335,-0.125 cw(c2.335,-0.09) 2.3,-0.09 2.3,0.09 cw(c2.335,0.09) 2.335,0.125 2.5,0.125 2.5,0.375 2.335,0.375 cw(c2.335,0.41) 2.3,0.41 2.3,0.59 cw(c2.335,0.59) 2.335,0.625 2.5,0.625 2.5,0.875 2.335,0.875 cw(c2.335,0.91) 2.3,0.91 2.3,1.09 cw(c2.335,1.09) 2.335,1.125 2.5,1.125 2.5,1.375 2.335,1.375 cw(c2.335,1.41) 2.3,1.41 2.3,1.75 2.05,1.75 2.05,-1.75
  lines w0.05: -2.5,-1.75 2.5,-1.75 2.5,1.75 -2.5,1.75 -2.5,-1.75
3D body: height 0.65, standoff 0.15, extent -2.476,-1.728 2.475,1.722
3D body: height 0.75, standoff 0.75, extent -1.954,1.021 -1.655,1.32
3D body: height 0.25, standoff 0.05, extent -0.5,-1.75 -0.25,1.75
3D body: height 0.25, standoff 0.05, extent 0.35,-1.75 0.6,1.75
3D body: height 0.25, standoff 0.05, extent 1.2,-1.75 1.45,1.75
3D body "3D_EPClogo3mm.step": height 0.76, standoff 0.75, extent -1.394,-0.666 1.594,0.683
3D body: height 0.75, standoff 0.2, extent -2.25,-1.321 2.25,1.321
3D body: height 0.25, standoff 0.05, extent 2.05,-1.75 2.5,1.75
3D body: height 0.25, standoff 0.05, extent -1.5,1.35 -1.25,1.75
3D body: height 0.25, standoff 0.05, extent -1,1.35 -0.75,1.75
3D body: height 0.25, standoff 0.05, extent -2.5,0.625 -2.1,0.875
3D body: height 0.25, standoff 0.05, extent -2.5,0.125 -2.1,0.375
3D body: height 0.25, standoff 0.05, extent -2.5,-0.375 -2.1,-0.125
3D body: height 0.25, standoff 0.05, extent -2.5,-0.875 -2.1,-0.625
3D body: height 0.25, standoff 0.05, extent -1.85,-1.75 -1.6,-1.35
3D body: height 0.25, standoff 0.05, extent -1.35,-1.75 -1.1,-1.35
3D body: height 0.25, standoff 0.05, extent -2.5,-1.75 -2.1,-1.125
3D body: height 0.25, standoff 0.05, extent -2.5,1.125 -2.1,1.75

## D0683 [mm]
pads (44):
  rrect50% 0.27x0.794 smd paste-0.037 mask-0.274: 1(-2,0.665) 2(-2,-0.665) 3(-1.6,0.665) 4(-1.6,-0.665) 5(-1.2,0.665) 7(-0.8,0.665) 8(-0.8,-0.665) 10(-0.4,-0.665) 11(0,0.665) 12(0,-0.665) 13(0.4,0.665) 14(0.4,-0.665) 15(0.8,0.665) 16(0.8,-0.665) 17(1.2,0.665) 18(1.2,-0.665) 19(1.6,0.665) 20(1.6,-0.665) 21(2,0.665) 22(2,-0.665)
  rrect50% 0.27x0.794 smd paste-0.037 mask-0.24: 6(-1.2,-0.665)
  rrect50% 0.27x0.795 smd paste-0.037 mask-0.274: 9(-0.4,0.665)
  oval 0.2x0.72 on Top Solder paste-0.18 mask+0: ""(-2,-0.665) ""(-2,0.665) ""(-1.6,-0.665) ""(-1.6,0.665) ""(-1.2,-0.665) ""(-1.2,0.665) ""(-0.8,-0.665) ""(-0.8,0.665) ""(-0.4,-0.665) ""(-0.4,0.665) ""(0,-0.665) ""(0,0.665) ""(0.4,-0.665) ""(0.4,0.665) ""(0.8,-0.665) ""(0.8,0.665) ""(1.2,-0.665) ""(1.2,0.665) ""(1.6,-0.665) ""(1.6,0.665) ""(2,-0.665) ""(2,0.665)
Top Overlay:
  circle w0.254: c-2.325,1.299 r0.006
  lines w0.127: -2.325,-1.025 -2.325,-0.56 ; -2.325,0.559 -2.325,1.024 ; -2.074,-1.251 -1.633,-1.251 ; -2.074,1.249 -1.633,1.249 ; -1.02,-1.251 -0.58,-1.251 ; -1.02,1.251 -0.58,1.251 ; 0.58,-1.251 1.02,-1.251 ; 0.58,1.251 1.02,1.251 ; 1.633,-1.251 2.074,-1.251 ; 1.633,1.249 2.074,1.249 ; 2.325,-1.025 2.325,-0.56 ; 2.325,0.559 2.325,1.024
Mechanical 13:
  lines w0.05: -2.225,-1.15 2.225,-1.15 2.225,1.15 -2.225,1.15 -2.225,-1.15
3D body "3D_EPClogo4mm.step": height 0.52, standoff 0.52, extent -1.881,-0.825 2.103,0.973
3D body: height 0.2, standoff 0, extent -2.105,0.405 -1.896,0.925
3D body: height 0.2, standoff 0, extent -2.097,0.306 -1.903,0.503
3D body: height 0.2, standoff 0, extent -2.097,0.826 -1.903,1.023
3D body: height 0.2, standoff 0, extent -1.697,0.826 -1.503,1.023
3D body: height 0.2, standoff 0, extent -1.697,0.306 -1.503,0.503
3D body: height 0.2, standoff 0, extent -1.705,0.405 -1.496,0.925
3D body: height 0.2, standoff 0, extent -1.297,0.826 -1.103,1.023
3D body: height 0.2, standoff 0, extent -1.297,0.306 -1.103,0.503
3D body: height 0.2, standoff 0, extent -1.305,0.405 -1.096,0.925
3D body: height 0.2, standoff 0, extent -0.897,0.826 -0.703,1.023
3D body: height 0.2, standoff 0, extent -0.897,0.306 -0.703,0.503
3D body: height 0.2, standoff 0, extent -0.905,0.405 -0.696,0.925
3D body: height 0.2, standoff 0, extent -0.497,0.826 -0.303,1.023
3D body: height 0.2, standoff 0, extent -0.497,0.306 -0.303,0.503
3D body: height 0.2, standoff 0, extent -0.505,0.405 -0.296,0.925
3D body: height 0.2, standoff 0, extent -0.097,0.826 0.097,1.023
3D body: height 0.2, standoff 0, extent -0.097,0.306 0.097,0.503
3D body: height 0.2, standoff 0, extent -0.105,0.405 0.104,0.925
3D body: height 0.2, standoff 0, extent 0.303,0.826 0.497,1.023
3D body: height 0.2, standoff 0, extent 0.303,0.306 0.497,0.503
3D body: height 0.2, standoff 0, extent 0.295,0.405 0.504,0.925
3D body: height 0.2, standoff 0, extent 0.703,0.826 0.897,1.023
3D body: height 0.2, standoff 0, extent 0.703,0.306 0.897,0.503
3D body: height 0.2, standoff 0, extent 0.695,0.405 0.904,0.925
3D body: height 0.2, standoff 0, extent 1.103,0.826 1.297,1.023
3D body: height 0.2, standoff 0, extent 1.103,0.306 1.297,0.503
3D body: height 0.2, standoff 0, extent 1.095,0.405 1.304,0.925
3D body: height 0.2, standoff 0, extent 1.503,0.826 1.697,1.023
3D body: height 0.2, standoff 0, extent 1.503,0.306 1.697,0.503
3D body: height 0.2, standoff 0, extent 1.495,0.405 1.704,0.925
3D body: height 0.2, standoff 0, extent 1.903,0.826 2.097,1.023
3D body: height 0.2, standoff 0, extent 1.903,0.306 2.097,0.503
3D body: height 0.2, standoff 0, extent 1.895,0.405 2.104,0.925
3D body: height 0.2, standoff 0, extent 1.895,-0.925 2.104,-0.405
3D body: height 0.2, standoff 0, extent 1.903,-1.024 2.097,-0.827
3D body: height 0.2, standoff 0, extent 1.903,-0.504 2.097,-0.307
3D body: height 0.2, standoff 0, extent 1.495,-0.925 1.704,-0.405
3D body: height 0.2, standoff 0, extent 1.503,-1.024 1.697,-0.827
3D body: height 0.2, standoff 0, extent 1.503,-0.504 1.697,-0.307
3D body: height 0.2, standoff 0, extent 1.095,-0.925 1.304,-0.405
3D body: height 0.2, standoff 0, extent 1.103,-1.024 1.297,-0.827
3D body: height 0.2, standoff 0, extent 1.103,-0.504 1.297,-0.307
3D body: height 0.2, standoff 0, extent 0.695,-0.925 0.904,-0.405
3D body: height 0.2, standoff 0, extent 0.703,-1.024 0.897,-0.827
3D body: height 0.2, standoff 0, extent 0.703,-0.504 0.897,-0.307
3D body: height 0.2, standoff 0, extent 0.295,-0.925 0.504,-0.405
3D body: height 0.2, standoff 0, extent 0.303,-1.024 0.497,-0.827
3D body: height 0.2, standoff 0, extent 0.303,-0.504 0.497,-0.307
3D body: height 0.2, standoff 0, extent -0.105,-0.925 0.104,-0.405
3D body: height 0.2, standoff 0, extent -0.097,-1.024 0.097,-0.827
3D body: height 0.2, standoff 0, extent -0.097,-0.504 0.097,-0.307
3D body: height 0.2, standoff 0, extent -0.505,-0.925 -0.296,-0.405
3D body: height 0.2, standoff 0, extent -0.497,-1.024 -0.303,-0.827
3D body: height 0.2, standoff 0, extent -0.497,-0.504 -0.303,-0.307
3D body: height 0.2, standoff 0, extent -0.905,-0.925 -0.696,-0.405
3D body: height 0.2, standoff 0, extent -0.897,-1.024 -0.703,-0.827
3D body: height 0.2, standoff 0, extent -0.897,-0.504 -0.703,-0.307
3D body: height 0.2, standoff 0, extent -1.305,-0.925 -1.096,-0.405
3D body: height 0.2, standoff 0, extent -1.297,-1.024 -1.103,-0.827
3D body: height 0.2, standoff 0, extent -1.297,-0.504 -1.103,-0.307
3D body: height 0.2, standoff 0, extent -1.705,-0.925 -1.496,-0.405
3D body: height 0.2, standoff 0, extent -1.697,-1.024 -1.503,-0.827
3D body: height 0.2, standoff 0, extent -1.697,-0.504 -1.503,-0.307
3D body: height 0.2, standoff 0, extent -2.097,-0.504 -1.903,-0.307
3D body: height 0.2, standoff 0, extent -2.097,-1.024 -1.903,-0.827
3D body: height 0.2, standoff 0, extent -2.105,-0.925 -1.896,-0.405
3D body: height 0.52, standoff 0.52, extent -2.149,0.765 -1.85,1.064
3D body: height 0.52, standoff 0.1, extent -2.225,-1.152 2.225,1.155

## D0727 [mm]
pads (53):
  rrect30% 0.9x0.35 smd paste-1 mask-1: 1(-2.4,0.575) 2(-2.4,0.075) 3(-2.4,-0.425) 4(-2.4,-0.925)
  rrect20% 1.2x0.85 smd paste-1 mask-1: 5(-2.25,-1.675)
  rrect30% 0.35x0.9 smd paste-1 mask-1: 6(-1.325,-1.65) 7(-0.825,-1.65) 11(-1.175,1.65) 12(-1.675,1.65)
  rrect10% 3.35x1.395 smd paste-1 mask-1: 8(1.175,-1.402)
  rrect10% 4x1.1 smd paste-1 mask-1: 9(0.85,0)
  rrect10% 3.4x1.395 smd paste-1 mask-1: 10(1.15,1.402)
  rrect20% 0.85x0.95 smd paste-1 mask-1: 13(-2.425,1.625)
  rrect50% 0.52x0.3 on Top Solder paste-1 mask-1: ""(-2.302,-0.925) ""(-2.302,-0.425) ""(-2.302,0.075) ""(-2.302,0.575)
  rrect50% 0.4x0.25 on Top Paste paste-1 mask-1: ""(-2.3,-0.425) ""(-2.3,0.575) ""(-2.3,-0.925) ""(-2.3,0.075)
  rrect50% 0.535x0.3 on Top Solder paste-1 mask-1: ""(-2.3,1.425)
  rrect50% 0.45x0.375 on Top Paste paste-1 mask-1: ""(-2.255,1.47)
  rrect50% 0.3x0.535 on Top Solder paste-1 mask-1: ""(-2.175,1.543)
  rrect50% 0.888x0.3 on Top Solder paste-1 mask-1: ""(-2.119,-1.425)
  rrect50% 0.795x0.3 on Top Paste paste-1 mask-1: ""(-2.083,-1.48)
  rrect50% 0.3x0.52 on Top Solder paste-1 mask-1: ""(-1.825,-1.55) ""(-1.675,1.55) ""(-1.325,-1.55) ""(-1.175,1.55) ""(-0.825,-1.55) ""(-0.325,-1.55) ""(-0.325,1.55) ""(0.175,-1.55) ""(0.175,1.55) ""(0.675,-1.55) ""(0.675,1.55) ""(1.175,-1.55) ""(1.175,1.55) ""(1.675,-1.55) ""(1.675,1.55) ""(2.175,-1.55) ""(2.175,1.55)
  rrect50% 0.25x0.4 on Top Paste paste-1 mask-1: ""(-1.675,1.55) ""(-1.325,-1.55) ""(-1.175,1.55) ""(-0.825,-1.55)
  rrect50% 3.405x0.48 on Top Solder paste-1 mask-1: ""(0.81,0)
  rrect50% 3.355x0.43 on Top Paste paste-1 mask-1: ""(0.823,0)
  rrect50% 3x0.59 on Top Solder paste-1 mask-1: ""(1.024,-1.31) ""(1.024,1.31)
  rrect50% 2.95x0.6 on Top Paste paste-1 mask-1: ""(1.035,-1.375) ""(1.035,1.375)
Top Overlay:
  circle w0.254: c-2.897,0.992 r0.006
  lines w0.127: -2.65,0.827 -2.65,1.185 ; -2.648,-1.372 -2.648,-1.9 -2.113,-1.9 ; -0.933,1.9 -0.615,1.9 ; 2.4,-1.9 2.65,-1.9 ; 2.4,1.9 2.65,1.9 ; 2.65,-0.875 2.65,-0.35 ; 2.65,0.35 2.65,0.875
Mechanical 13:
  drawing of 154 lines, arcs and shapes, not listed
3D body: height 0.66, standoff 0.65, extent -2.145,0.85 -1.847,1.15
3D body: height 0.25, standoff 0.05, extent -0.865,-0.215 2.485,0.214
3D body: height 0.65, standoff 0.2, extent -2.235,-1.3 2.235,1.3
3D body "3D_EPClogo3mm.step": height 0.66, standoff 0.65, extent -1.346,-0.579 1.642,0.77
3D body: height 0.55, standoff 0.15, extent -2.488,-1.737 2.488,1.737
3D body: height 0.25, standoff 0.05, extent -1.45,-1.75 -1.2,-1.35
3D body: height 0.25, standoff 0.05, extent -0.95,-1.75 -0.7,-1.35
3D body: height 0.25, standoff 0.05, extent -2.496,-1.75 -1.7,-1.3
3D body: height 0.25, standoff 0.05, extent -2.501,1.3 -2.049,1.75
3D body: height 0.25, standoff 0.05, extent -2.5,-0.05 -2.1,0.2
3D body: height 0.25, standoff 0.05, extent -2.5,-0.55 -2.1,-0.3
3D body: height 0.25, standoff 0.05, extent -2.5,-1.05 -2.1,-0.8
3D body: height 0.25, standoff 0.05, extent -2.502,0.45 -2.102,0.7
3D body: height 0.25, standoff 0.05, extent -1.8,1.347 -1.55,1.747
3D body: height 0.25, standoff 0.05, extent -1.3,1.35 -1.05,1.75
3D body: height 0.25, standoff 0.05, extent -0.45,-1.75 2.5,-1.04
3D body: height 0.25, standoff 0.05, extent -0.451,1.039 2.499,1.749